# Altium integrated library SPFE480D25R.IntLib: 1 symbol
Pins are listed as number, name and electrical type; pins without a type are passive.

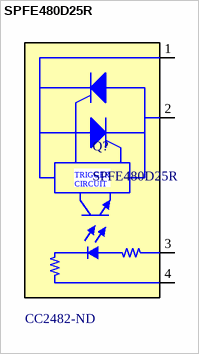
[diagram p0: symbol SPFE480D25R]

## SPFE480D25R
designator Q?  Supplier Part Number 1: CC2482-ND
RELAY SSR DC 480VAC 25A PCB; Manufacturer: Crydom; Min Supply Voltage: 48V; Max Supply Voltage: 660V; Throw Configuration: SPST; Supplier 1: Digi-Key; Manufacturer Part Number: SPFE480D25R; RoHS: No; Category: Solid State Relays; Stock 1: 4; Pricing 1: 1=34,85000, 10=33,19000, 50=31,68020, 100=30,75000 (USD); Mount: Through Hole; Case/Package: SIP; Number of Pins: 4; Min Operating Temperature: -30°C; Max Operating Temperature: 80°C; Output Current: 25A; Package Quantity: 20; Packaging: Bulk; Termination: PC Pin; Load Current: 25A; Current Rating: 25A; Relay Type: Relay; Series: SPF, PowerFin™; Input Type: DC; Length: 1.6mm; Height: 1.35mm; Depth: 0.9mm; REACH SVHC: No SVHC; Lead Free: Lead Free; RoHS Compliant: No; ComponentLink1URL: https://datasheet.ciiva.com/33115/spfe480d25r-33115612.pdf?src-supplier=Today+Components; ComponentLink1Description: https://datasheet.ciiva.com/33115/spfe480d25r-33115612.pdf?src-supplier=Today+Components; ComponentLink2URL: https://datasheet.ciiva.com/2423/s-p-f-2423775.pdf?src-supplier=Digi-Key; ComponentLink2Description: https://datasheet.ciiva.com/2423/s-p-f-2423775.pdf?src-supplier=Digi-Key; ComponentLink3URL: https://datasheet.ciiva.com/4470/s-p-f-31409-4470572.pdf?src-supplier=Mouser; ComponentLink3Description: https://datasheet.ciiva.com/4470/s-p-f-31409-4470572.pdf?src-supplier=Mouser; ComponentLink4URL: https://datasheet.ciiva.com/14185/spf-eng-tds-14185190.pdf?src-supplier=Distrelec; ComponentLink4Description: https://datasheet.ciiva.com/14185/spf-eng-tds-14185190.pdf?src-supplier=Distrelec; ComponentLink5URL: https://datasheet.ciiva.com/1618/s-p-f-1618020.pdf?src-supplier=Farnell; ComponentLink5Description: https://datasheet.ciiva.com/1618/s-p-f-1618020.pdf?src-supplier=Farnell; ComponentLink6URL: https://datasheet.ciiva.com/1526/s-p-f-1526768.pdf?src-supplier=Element14; ComponentLink6Description: https://datasheet.ciiva.com/1526/s-p-f-1526768.pdf?src-supplier=Element14; ComponentLink7URL: https://datasheet.ciiva.com/1669/xbp60-1669158.pdf?src-supplier=Newark; ComponentLink7Description: https://datasheet.ciiva.com/1669/xbp60-1669158.pdf?src-supplier=Newark
footprint SPFE480D25R
pins: 1 A, 2 G, 3 K, 4 K
text: TRIGGER / CIRCUIT